# EAGLE library part LT1357CS8#PBF (library filtercard_parts)
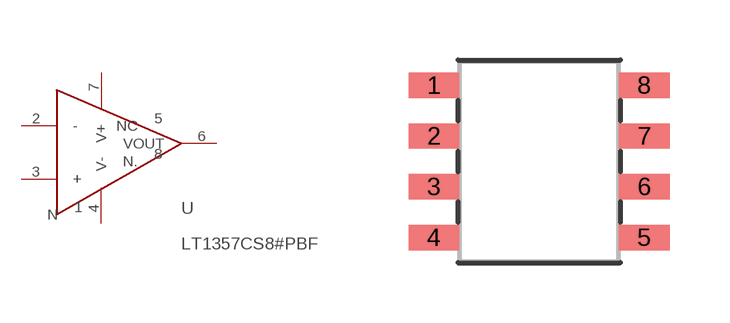
[diagram p1: symbol with the pads of 8-SOIC; footprint 8-SOIC]

Designator prefix -

## LT1357CS8#PBF  [8-SOIC]
1  N
2  -
3  +
4  V-
5  NC
6  VOUT
7  V+
8  N.

## Footprint 8-SOIC (pad centres in mm)
smd 1.27 x 0.635: 1 -2.629,1.905; 2 -2.629,0.635; 3 -2.629,-0.635; 4 -2.629,-1.905; 5 2.629,-1.905; 6 2.629,-0.635; 7 2.629,0.635; 8 2.629,1.905